# EAGLE library part CLP6C-FKB (library hybridpi)
RGB LED Cree 50mA SMD Datasheet: Cree <http://www.cree.com/~/media/Files/Cree/LED%20Components%20and%20Modules/HB/Data%20Sheets/CLP6CFKB(933).pdf>
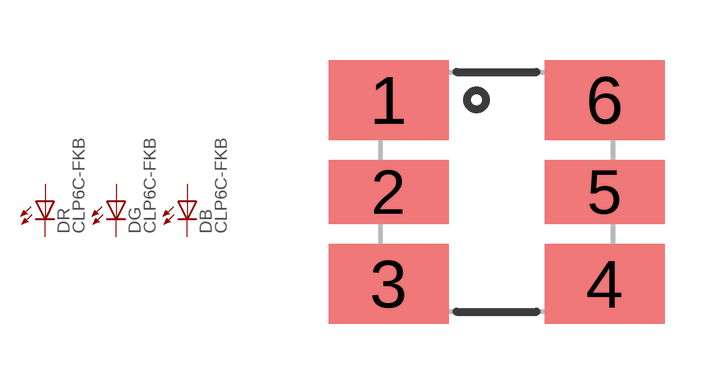
[diagram p0: symbol with the pads of CLP6C-FKB; footprint CLP6C-FKB]

Designator prefix D; gates G=LED B=LED R=LED

## CLP6C-FKB (EAGLEUP: CLP6C-FKB)  [CLP6C-FKB]
1  R:A  pas
2  G:A  pas
3  B:A  pas
4  B:C  pas
5  G:C  pas
6  R:C  pas

## Footprint CLP6C-FKB (pad centres in mm)
smd 3 x 2: 1 -2.7,2.3; 3 -2.7,-2.3; 4 2.7,-2.3; 6 2.7,2.3
smd 3 x 1.6: 2 -2.7,0; 5 2.7,0